# EAGLE library part LM25576 (library JLB6_power)
LM25576 regul 6-42V synchro
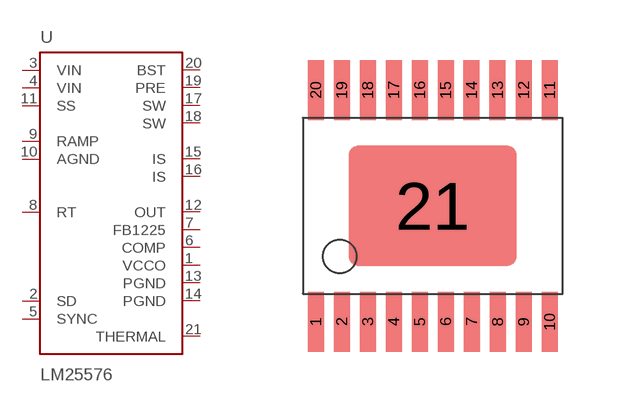
[diagram p4: symbol with the pads of TSSOP20_THERM; footprint TSSOP20_THERM]

Designator prefix U

## LM25576  [TSSOP20_THERM]
1  VCCO  pwr
2  SD  pas
3  VIN  in
4  VIN  in
5  SYNC  pas
6  COMP
7  FB1225  in
8  RT  pas
9  RAMP  pas
10  AGND  pwr
11  SS
12  OUT
13  PGND  pwr
14  PGND  pwr
15  IS  pas
16  IS  pas
17  SW
18  SW
19  PRE  oc
20  BST  pas
21  THERMAL  pwr

## Footprint TSSOP20_THERM (pad centres in mm)
smd 0.4 x 1.5: 1 -2.924,-2.9; 2 -2.274,-2.9; 3 -1.624,-2.9; 4 -0.974,-2.9; 5 -0.324,-2.9; 6 0.326,-2.9; 7 0.976,-2.9; 8 1.626,-2.9; 9 2.276,-2.9; 10 2.926,-2.9; 11 2.926,2.9; 12 2.276,2.9; 13 1.624,2.9; 14 0.974,2.9; 15 0.326,2.9; 16 -0.324,2.9; 17 -0.974,2.9; 18 -1.624,2.9; 19 -2.274,2.9; 20 -2.924,2.9
smd 4.2 x 3: 21 0,0